# Altium schematic symbol library D_MBRB8H100T4G_0.Schlib: 1 symbol
Pins are listed as number, name and electrical type; pins without a type are passive.

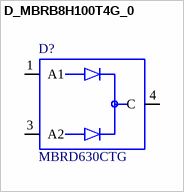
[diagram p0: symbol D_MBRB8H100T4G_0]

## D_MBRB8H100T4G_0
designator D?, comment MBRD630CTG
pins: 1 A1, 3 A2, 4 C